# Altium footprint library SOIC127P700X230-16N.PcbLib: 1 footprints
Each footprint in its own frame and in the unit in brackets; x right, y up, seen from the top. Pads: shape width x height; smd on the part's side, far side on the other; paste and mask are expansions set on the pad; w line width, h text height; cw(c..) or ccw(c..) is an arc to the next point about the centre after c.
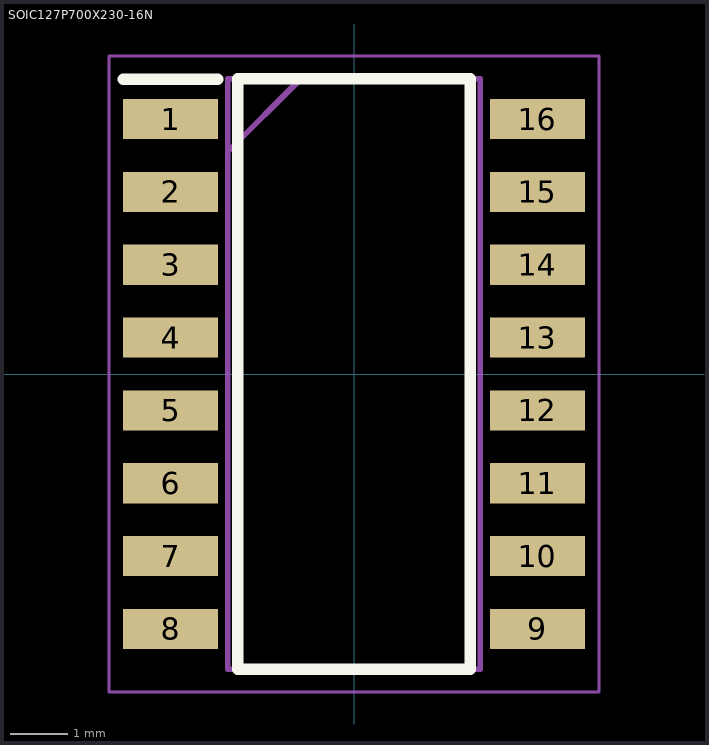
[diagram p0: the footprint, top view; thin cyan lines are the x and y axes]

## SOIC127P700X230-16N [mm]
pads (16):
  rect 1.65x0.7 smd: 1(-3.2,4.445) 2(-3.2,3.175) 3(-3.2,1.905) 4(-3.2,0.635) 5(-3.2,-0.635) 6(-3.2,-1.905) 7(-3.2,-3.175) 8(-3.2,-4.445) 9(3.2,-4.445) 10(3.2,-3.175) 11(3.2,-1.905) 12(3.2,-0.635) 13(3.2,0.635) 14(3.2,1.905) 15(3.2,3.175) 16(3.2,4.445)
Top Overlay:
  lines w0.2: -4.025,5.145 -2.375,5.145 ; -2.025,-5.15 2.025,-5.15 2.025,5.15 -2.025,5.15 -2.025,-5.15
Mechanical 15:
  lines w0.1: -2.2,3.88 -0.93,5.15 ; -2.2,-5.15 2.2,-5.15 2.2,5.15 -2.2,5.15 -2.2,-5.15
Mechanical 20:
  lines w0.05: -4.275,-5.55 4.275,-5.55 4.275,5.55 -4.275,5.55 -4.275,-5.55